# Altium integrated library resistors.IntLib: 7 symbols
Pins are listed as number, name and electrical type; pins without a type are passive.

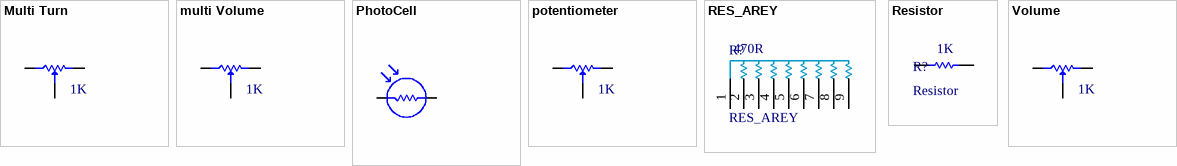
[diagram p0: symbols Multi Turn to Volume]

## Multi Turn
designator VR  value 1K  (hidden comment: Multi Turn)
Email: Razi.vesali@gmail.com; LatestRevisionDate: 17-Jul-2016; LatestRevisionNote: Re-released for Puplic; Publisher: Seyed Razi vesali (SRV)
footprint Multi Turn
pins: 1 CCW, 2 CW, 3 Setpoint

## multi Volume
designator VR  value 1K  (hidden comment: multi Volume)
Email: Razi.vesali@gmail.com; LatestRevisionDate: 17-Jul-2016; LatestRevisionNote: Re-released for Puplic; Publisher: Seyed Razi vesali (SRV)
footprint multi Volume
pins: 1 CCW, 2 CW, 3 Setpoint

## PhotoCell
designator Photo Cell?, comment Photo Cell  (value not drawn)
Email: Razi.vesali@gmail.com; LatestRevisionDate: 17-Jul-2016; LatestRevisionNote: Re-released for Puplic; Publisher: Seyed Razi Vesali (SRV)
footprint PhotoCell
pins: 1, 2

## potentiometer
designator VR  value 1K  (hidden comment: potentiometer)
Email: Razi.vesali@gmail.com; LatestRevisionDate: 17-Jul-2016; LatestRevisionNote: Re-released for Puplic; Publisher: Seyed Razi vesali (SRV)
footprint potentiometer
pins: 1 CCW, 2 CW, 3 Setpoint

## RES_AREY
designator R?  value 470R
Email: razi.vesali@gmail.com; LatestRevisionDate: 17-Jul-2016; LatestRevisionNote: Re-released for puplic; Publisher: Seyed Razi Vesali
footprint Res Array
pins: 1, 2, 3, 4, 5, 6, 7, 8, 9

## Resistor
designator R?  value 1K
Email: razi.vesali@gmail.com; Published: 17-Jun-2016; LatestRevisionNote: Re-released for puplic; Publisher: Seyed Razi Vesali
footprint Resistor_0.25w-0.3 (Axial Device, Thru-Hole; 2 Leads; 0.3 in Pin Spacing)
footprint Resistor_0.25w-0.4 (Axial Device, Thru-Hole; 2 Leads; 0.4 in Pin Spacing)
footprint Resistor_0.25W_Stand
footprint Resistor_0.5W
footprint Resistor_3W
footprint Resistor_SMD_0201 (0603)
footprint Resistor_SMD_0402 (1005)
footprint Resistor_SMD_0603 (1608)
footprint Resistor_SMD_0805 (2012)
footprint Resistor_SMD_1218 (3246)
footprint Resistor_SMD_2010 (5025)
footprint Resistor_SMD_1206 (3216)
footprint Resistor_0.25w-0.5 (Axial Device, Thru-Hole; 2 Leads; 0.3 in Pin Spacing)
footprint Resistor_0.25w-0.2 (Axial Device, Thru-Hole; 2 Leads; 0.3 in Pin Spacing)
footprint Resistor_SMD_1210 (3225) (Chip Resistor, 2-Leads, Body 3.2x2.6mm, IPC High Density _ (0.250 W))
footprint Resistor_SMD_1217 (3042) (Chip Resistor, 2-Leads, Body 3.0x4.2mm, IPC High Density _ (0.250 W))
footprint Resistor_SMD_2512 (6332)
pins: 1, 2

## Volume
designator VR  value 1K  (hidden comment: Volume)
Email: Razi.vesali@gmail.com; LatestRevisionDate: 17-Jul-2016; LatestRevisionNote: Re-released for Puplic; Publisher: Seyed Razi vesali (SRV)
footprint Volume
footprint Volume - multi turn
pins: 1 CCW, 2 CW, 3 Setpoint